# Altium footprint library PcbLib1.PcbLib: 1 footprints
Each footprint in its own frame and in the unit in brackets; x right, y up, seen from the top. Pads: shape width x height; smd on the part's side, far side on the other; paste and mask are expansions set on the pad; w line width, h text height; cw(c..) or ccw(c..) is an arc to the next point about the centre after c.
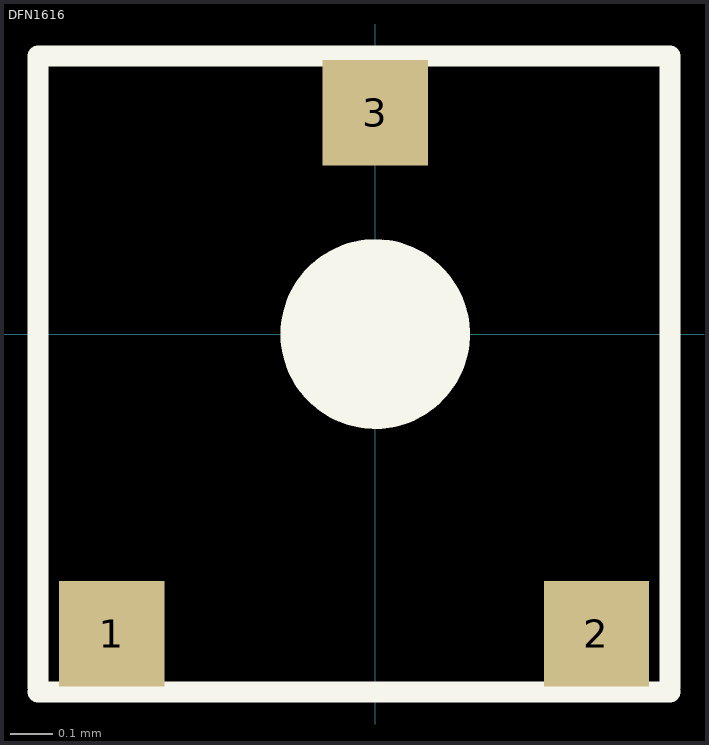
[diagram p0: the footprint, top view; thin cyan lines are the x and y axes]

## DFN1616 [mm]
pads (3):
  rect 0.25x0.25 smd: 1(-0.625,-0.711) 2(0.525,-0.711) 3(0,0.525)
Top Overlay:
  circle w0.25: c0,0 r0.1
  lines w0.05: -0.801,0.66 0.699,0.66 ; -0.8,-0.85 0.7,-0.85 ; -0.8,-0.838 -0.8,0.65 ; 0.7,-0.838 0.7,0.65